# EAGLE library part DG390BDJ-E3 (library Vishay)
CMOS Analog Switches
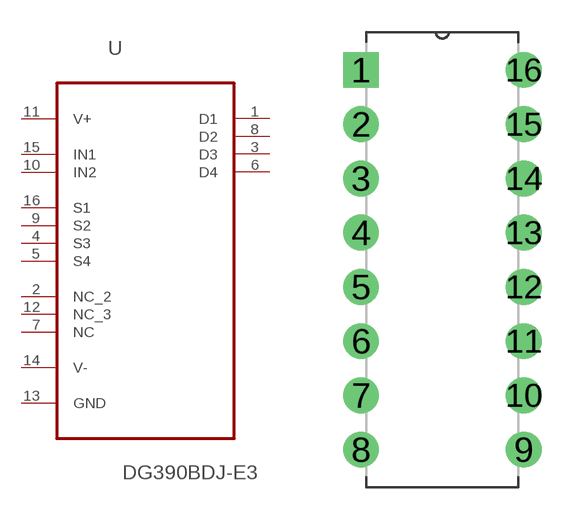
[diagram p23: symbol with the pads of DIP254P762X508-16; footprint DIP254P762X508-16]

Designator prefix U

## DG390BDJ-E3 (MPN: DG390BDJ-E3; OC_FARNELL: 1531014; OC_NEWARK: 49K9522; PACKAGE: PDIP-16; SUPPLIER: VISHAY SILICONIX)  [DIP254P762X508-16]
1  D1  out
2  NC_2  nc
3  D3  out
4  S3  in
5  S4  in
6  D4  out
7  NC  nc
8  D2  out
9  S2  in
10  IN2  in
11  V+  pwr
12  NC_3  nc
13  GND  pas
14  V-  pwr
15  IN1  in
16  S1  in

## Footprint DIP254P762X508-16 (pad centres in mm)
drill 1.118 square: 1 -7.62,17.78
drill 1.118: 2 -7.62,15.24; 3 -7.62,12.7; 4 -7.62,10.16; 5 -7.62,7.62; 6 -7.62,5.08; 7 -7.62,2.54; 8 -7.62,0; 9 0,0; 10 0,2.54; 11 0,5.08; 12 0,7.62; 13 0,10.16; 14 0,12.7; 15 0,15.24; 16 0,17.78